# Altium schematic symbol library Schlib1.SchLib: 1 symbol
Pins are listed as number, name and electrical type; pins without a type are passive.

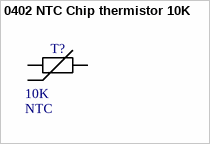
[diagram p0: symbol 0402 NTC Chip thermistor 10K]

## 0402 NTC Chip thermistor 10K
designator T?, comment R: 10K  Type: NTC  (hidden comment: 0402 NTC 10K)
0402 NTC Chip thermistor 10K
footprint LC-0402_R
footprint LC-0402
pins: 1, 2